# Altium footprint library FERRITE-BEAD-600OHM-0805.PcbLib: 1 footprints
Each footprint in its own frame and in the unit in brackets; x right, y up, seen from the top. Pads: shape width x height; smd on the part's side, far side on the other; paste and mask are expansions set on the pad; w line width, h text height; cw(c..) or ccw(c..) is an arc to the next point about the centre after c.
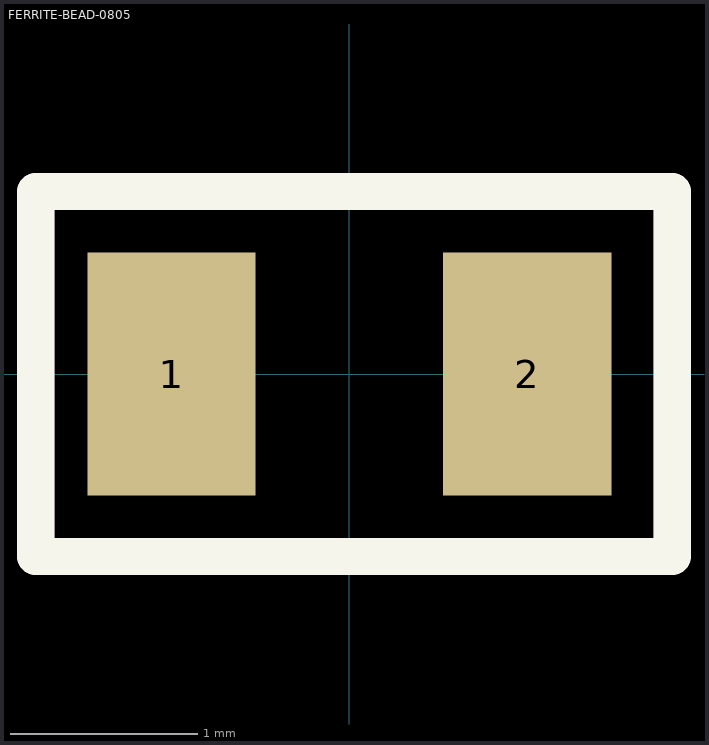
[diagram p0: the footprint, top view; thin cyan lines are the x and y axes]

## FERRITE-BEAD-0805 [mm]
pads (2):
  rect 0.9x1.3 smd: 1(-0.95,0) 2(0.95,0)
Top Overlay:
  lines w0.2: -1.675,-0.975 -1.675,0.975 1.725,0.975 1.725,-0.975 -1.675,-0.975
Mechanical 29:
  lines w0.2: -1.675,-0.975 1.7,-0.975 1.725,-0.95 1.725,0.975 -1.675,0.975 -1.675,-0.975
  text ".Designator" at -0.975,-0.175 h0.6
3D body "MPZ2012S601AT000.stp": height 1.05, standoff 0, extent -0.975,-0.625 1.025,0.625